# EAGLE library part MY_XBEE_PRO (library smylbr[Conflict])
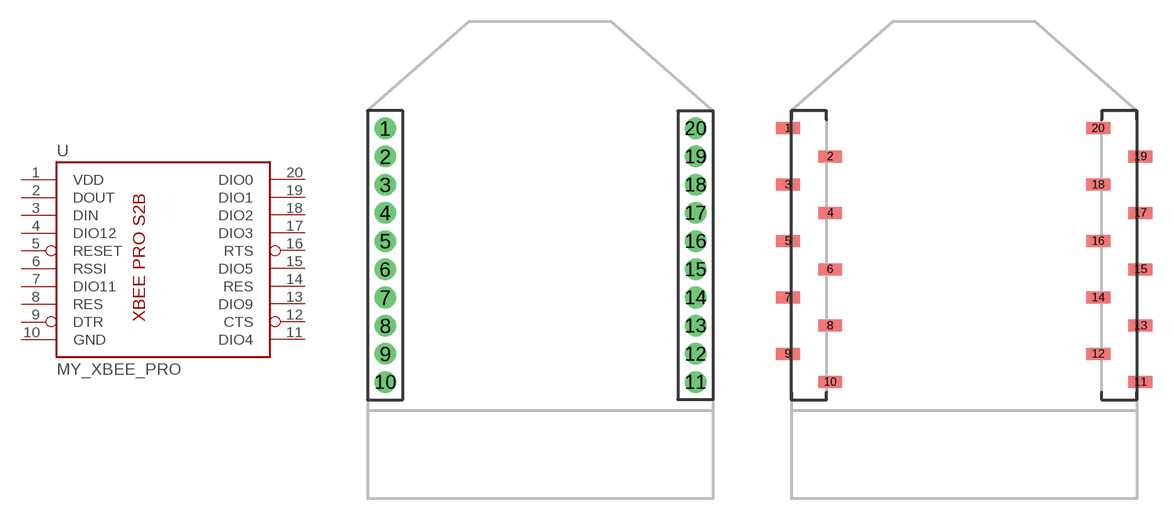
[diagram p0: symbol with the pads of XBEE_PRO_PTH; footprints XBEE_PRO_PTH, XBEE_PRO_SMD]

Designator prefix -

## MY_XBEE_PRO  [XBEE_PRO_PTH]
1  VDD  pwr
2  DOUT  out
3  DIN  in
4  DIO12
5  RESET  in
6  RSSI
7  DIO11
8  RES
9  DTR
10  GND  pwr
11  DIO4
12  CTS  out
13  DIO9
14  RES
15  DIO5
16  RTS  in
17  DIO3
18  DIO2
19  DIO1
20  DIO0

## MY_XBEE_PROSAN  [XBEE_PRO_SMD]
Pads as for XBEE_PRO_PTH

## Footprint XBEE_PRO_PTH (pad centres in mm)
drill 0.8 pad 1.524: 1 -11,8.57; 2 -11,6.57; 3 -11,4.57; 4 -11,2.57; 5 -11,0.57; 6 -11,-1.43; 7 -11,-3.43; 8 -11,-5.43; 9 -11,-7.43; 10 -11,-9.43; 11 11,-9.43; 12 11,-7.43; 13 11,-5.43; 14 11,-3.43; 15 11,-1.43; 16 11,0.57; 17 11,2.57; 18 11,4.57; 19 11,6.57; 20 11,8.57

## Footprint XBEE_PRO_SMD (pad centres in mm)
smd 1.7 x 0.85: 1 -11.23,6.03; 2 -8.23,4.03; 3 -11.23,2.03; 4 -8.23,0.03; 5 -11.23,-1.97; 6 -8.23,-3.97; 7 -11.23,-5.97; 8 -8.23,-7.97; 9 -11.23,-9.97; 10 -8.23,-11.97; 11 13.77,-11.97; 12 10.77,-9.97; 13 13.77,-7.97; 14 10.77,-5.97; 15 13.77,-3.97; 16 10.77,-1.97; 17 13.77,0.03; 18 10.77,2.03; 19 13.77,4.03; 20 10.77,6.03